# Altium schematic symbol library fpc1.0.SchLib: 4 symbols
Pins are listed as number, name and electrical type; pins without a type are passive.

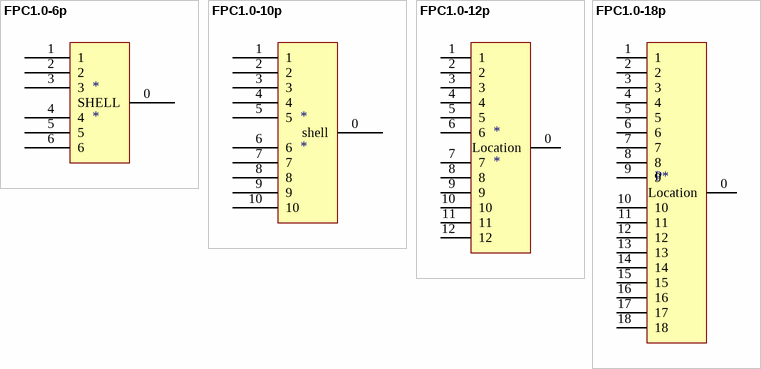
[diagram p0: symbols FPC1.0-6p to FPC1.0-18p]

## FPC1.0-6p
designator *
footprint FPC1.0-2H-WS-6P (翻盖FPC，脚距1mm，不含脚（长10.9mm，宽5.2mm，高1.96mm）)
pins: 0 SHELL, 1 1 , 2, 3, 4, 5, 6

## FPC1.0-10p
designator *
footprint FPC1.0-2H-WS-10P (翻盖FPC，脚距1mm，不含脚（长14.9mm，宽5.2mm，高1.96mm）)
pins: 0 shell, 1, 2, 3, 4, 5, 6, 7, 8, 9, 10

## FPC1.0-12p
designator *
footprint FPC1.0-2H-WS-12P (翻盖FPC，脚距1mm，不含脚（长16.9mm，宽5.2mm，高1.96mm）)
pins: 0 Location, 1, 2, 3, 4, 5, 6, 7, 8, 9, 10, 11, 12

## FPC1.0-18p
designator P*, comment FPC-18p  (value not drawn)
footprint FPC1.0-2H-WS-18P (翻盖FPC，脚距1mm，不含脚（长22.9mm，宽5.2mm，高1.96mm）)
pins: 0 Location, 1, 2, 3, 4, 5, 6, 7, 8, 9, 10, 11, 12, 13, 14, 15, 16, 17, 18